# Altium schematic symbol library SamacSys.SchLib: 3 symbols
Pins are listed as number, name and electrical type; pins without a type are passive.

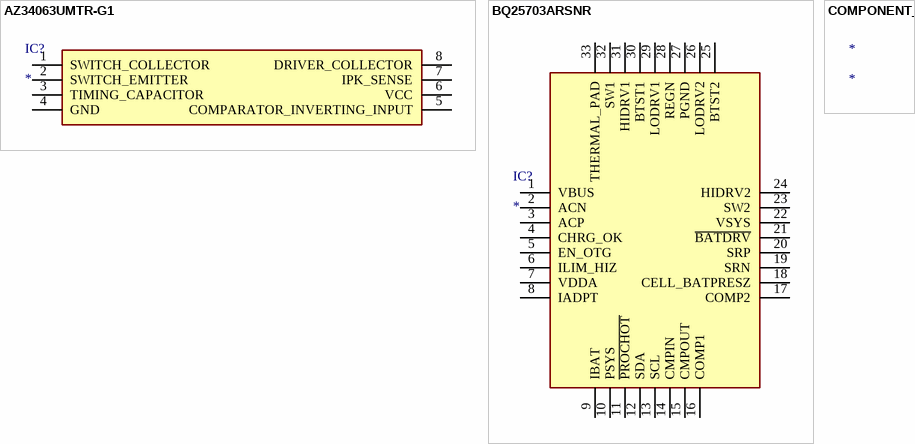
[diagram p0: symbols AZ34063UMTR-G1 to COMPONENT_1]

## AZ34063UMTR-G1
designator IC?
Integrated Circuit; Manufacturer_Name: Diodes Inc.; Manufacturer_Part_Number: AZ34063UMTR-G1; Datasheet Link: https://componentsearchengine.com/Datasheets/1/AZ34063UMTR-G1.pdf; Height: 1.75mm; Mouser Part Number: 621-AZ34063UMTR-G1; Mouser Price/Stock: https://www.mouser.co.uk/ProductDetail/Diodes-Incorporated/AZ34063UMTR-G1?qs=FKu9oBikfSmOGMlC%2Fa3O3g%3D%3D; Arrow Part Number: AZ34063UMTR-G1; Arrow Price/Stock: https://www.arrow.com/en/products/az34063umtr-g1/diodes-incorporated?region=europe
footprint SOIC127P600X175-8N
pins: 1 SWITCH_COLLECTOR, 2 SWITCH_EMITTER, 3 TIMING_CAPACITOR, 4 GND, 5 COMPARATOR_INVERTING_INPUT, 6 VCC, 7 IPK_SENSE, 8 DRIVER_COLLECTOR

## BQ25703ARSNR
designator IC?
Integrated Circuit; Manufacturer_Name: Texas Instruments; Manufacturer_Part_Number: BQ25703ARSNR; Description: NVDC I2C Battery Buck-Boost Charge Controller with System Power Monitor & Processor; Datasheet Link: http://www.ti.com/lit/gpn/BQ25703A; Height: 0.8mm; Mouser Part Number: 595-BQ25703ARSNR; Mouser Price/Stock: https://www.mouser.co.uk/ProductDetail/Texas-Instruments/BQ25703ARSNR?qs=5aG0NVq1C4wREUY%2F32PenQ%3D%3D; Arrow Part Number: BQ25703ARSNR; Arrow Price/Stock: https://www.arrow.com/en/products/bq25703arsnr/texas-instruments
footprint QFN40P400X400X80-33N-D
pins: 1 VBUS, 2 ACN, 3 ACP, 4 CHRG_OK, 5 EN_OTG, 6 ILIM_HIZ, 7 VDDA, 8 IADPT, 9 IBAT, 10 PSYS, 11 ~{PROCHOT}, 12 SDA, 13 SCL, 14 CMPIN, 15 CMPOUT, 16 COMP1, 17 COMP2, 18 CELL_BATPRESZ, 19 SRN, 20 SRP, 21 ~{BATDRV}, 22 VSYS, 23 SW2, 24 HIDRV2, 25 BTST2, 26 LODRV2, 27 PGND, 28 REGN, 29 LODRV1, 30 BTST1, 31 HIDRV1, 32 SW1, 33 THERMAL_PAD

## COMPONENT_1
designator *